# Altium footprint library V_5.PcbLib: 4 footprints
Each footprint in its own frame and in the unit in brackets; x right, y up, seen from the top. Pads: shape width x height; smd on the part's side, far side on the other; paste and mask are expansions set on the pad; w line width, h text height; cw(c..) or ccw(c..) is an arc to the next point about the centre after c.
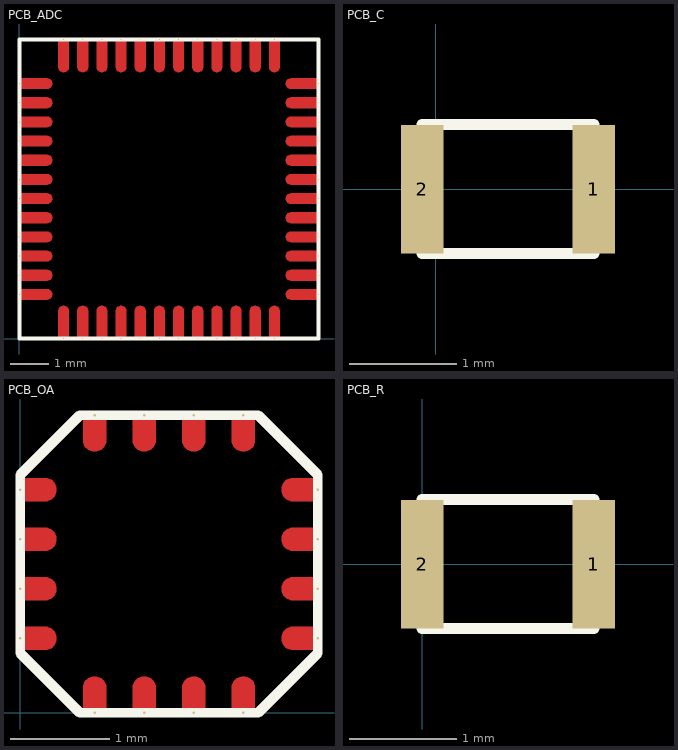
[diagram p0: the footprints below, top view; thin cyan lines are the x and y axes]

## PCB_ADC [mil]
pads (48):
  round 1 smd mask+2.76: 1(0,261.81) 2(0,242.13) 3(0,222.44) 4(0,202.76) 5(0,183.07) 6(0,163.39) 7(0,143.7) 8(0,124.02) 9(0,104.33) 10(0,84.65) 11(0,64.96) 12(0,45.28) 13(45.28,0) 14(64.96,0) 15(84.65,0) 16(104.33,0) 17(124.02,0) 18(143.7,0) 19(163.39,0) 20(183.07,0) 21(202.76,0) 22(222.44,0) 23(242.13,0) 24(261.81,0) 25(307.09,45.28) 26(307.09,64.96) 27(307.09,84.65) 28(307.09,104.33) 29(307.09,124.02) 30(307.09,143.7) 31(307.09,163.39) 32(307.09,183.07) 33(307.09,202.76) 34(307.09,222.44) 35(307.09,242.13) 36(307.09,261.81) 37(261.81,307.09) 38(242.13,307.09) 39(222.44,307.09) 40(202.76,307.09) 41(183.07,307.09) 42(163.39,307.09) 43(143.7,307.09) 44(124.02,307.09) 45(104.33,307.09) 46(84.65,307.09) 47(64.96,307.09) 48(45.28,307.09)
Top Layer:
  region: 307.09,157.87 279.13,157.87 278.41,157.87 277.01,158.25 275.75,158.98 274.72,160 274,161.26 273.62,162.66 273.62,164.11 274,165.51 274.72,166.77 275.75,167.8 277.01,168.52 278.41,168.9 279.13,168.9 307.09,168.9
  region: 307.09,138.19 279.13,138.19 278.41,138.19 277.01,138.56 275.75,139.29 274.72,140.32 274,141.57 273.62,142.98 273.62,144.43 274,145.83 274.72,147.09 275.75,148.11 277.01,148.84 278.41,149.21 279.13,149.21 307.09,149.21
  region: 307.09,118.5 279.13,118.5 278.41,118.5 277.01,118.88 275.75,119.61 274.72,120.63 274,121.89 273.62,123.29 273.62,124.74 274,126.14 274.72,127.4 275.75,128.43 277.01,129.15 278.41,129.53 279.13,129.53 307.09,129.53
  region: 307.09,98.82 279.13,98.82 278.41,98.82 277.01,99.19 275.75,99.92 274.72,100.95 274,102.2 273.62,103.61 273.62,105.06 274,106.46 274.72,107.72 275.75,108.74 277.01,109.47 278.41,109.84 279.13,109.84 307.09,109.84
  region: 307.09,79.13 279.13,79.13 278.41,79.13 277.01,79.51 275.75,80.24 274.72,81.26 274,82.52 273.62,83.92 273.62,85.37 274,86.77 274.72,88.03 275.75,89.06 277.01,89.78 278.41,90.16 279.13,90.16 307.09,90.16
  region: 307.09,59.45 279.13,59.45 278.41,59.45 277.01,59.82 275.75,60.55 274.72,61.58 274,62.83 273.62,64.23 273.62,65.69 274,67.09 274.72,68.34 275.75,69.37 277.01,70.1 278.41,70.47 279.13,70.47 307.09,70.47
  region: 157.87,0 157.87,27.95 157.87,28.68 158.25,30.08 158.98,31.34 160,32.36 161.26,33.09 162.66,33.46 164.11,33.46 165.51,33.09 166.77,32.36 167.8,31.34 168.52,30.08 168.9,28.68 168.9,27.95 168.9,0
  region: 177.56,0 177.56,27.95 177.56,28.68 177.93,30.08 178.66,31.34 179.69,32.36 180.94,33.09 182.35,33.46 183.8,33.46 185.2,33.09 186.46,32.36 187.48,31.34 188.21,30.08 188.58,28.68 188.58,27.95 188.58,0
  region: 197.24,0 197.24,27.95 197.24,28.68 197.62,30.08 198.35,31.34 199.37,32.36 200.63,33.09 202.03,33.46 203.48,33.46 204.88,33.09 206.14,32.36 207.17,31.34 207.89,30.08 208.27,28.68 208.27,27.95 208.27,0
  region: 216.93,0 216.93,27.95 216.93,28.68 217.3,30.08 218.03,31.34 219.06,32.36 220.31,33.09 221.72,33.46 223.17,33.46 224.57,33.09 225.83,32.36 226.85,31.34 227.58,30.08 227.95,28.68 227.95,27.95 227.95,0
  region: 256.3,0 256.3,27.95 256.3,28.68 256.67,30.08 257.4,31.34 258.43,32.36 259.68,33.09 261.09,33.46 262.54,33.46 263.94,33.09 265.2,32.36 266.22,31.34 266.95,30.08 267.32,28.68 267.32,27.95 267.32,0
  region: 307.09,39.76 279.13,39.76 278.41,39.76 277.01,40.14 275.75,40.87 274.72,41.89 274,43.15 273.62,44.55 273.62,46 274,47.4 274.72,48.66 275.75,49.69 277.01,50.41 278.41,50.79 279.13,50.79 307.09,50.79
  region: 236.61,0 236.61,27.95 236.61,28.68 236.99,30.08 237.72,31.34 238.74,32.36 240,33.09 241.4,33.46 242.85,33.46 244.25,33.09 245.51,32.36 246.54,31.34 247.26,30.08 247.64,28.68 247.64,27.95 247.64,0
  region: 138.19,0 138.19,27.95 138.19,28.68 138.56,30.08 139.29,31.34 140.32,32.36 141.57,33.09 142.98,33.46 144.43,33.46 145.83,33.09 147.09,32.36 148.11,31.34 148.84,30.08 149.21,28.68 149.21,27.95 149.21,0
  region: 59.45,0 59.45,27.95 59.45,28.68 59.82,30.08 60.55,31.34 61.58,32.36 62.83,33.09 64.23,33.46 65.69,33.46 67.09,33.09 68.34,32.36 69.37,31.34 70.1,30.08 70.47,28.68 70.47,27.95 70.47,0
  region: 79.13,0 79.13,27.95 79.13,28.68 79.51,30.08 80.24,31.34 81.26,32.36 82.52,33.09 83.92,33.46 85.37,33.46 86.77,33.09 88.03,32.36 89.06,31.34 89.78,30.08 90.16,28.68 90.16,27.95 90.16,0
  region: 118.5,0 118.5,27.95 118.5,28.68 118.88,30.08 119.61,31.34 120.63,32.36 121.89,33.09 123.29,33.46 124.74,33.46 126.14,33.09 127.4,32.36 128.43,31.34 129.15,30.08 129.53,28.68 129.53,27.95 129.53,0
  region: 98.82,0 98.82,27.95 98.82,28.68 99.19,30.08 99.92,31.34 100.95,32.36 102.2,33.09 103.61,33.46 105.06,33.46 106.46,33.09 107.72,32.36 108.74,31.34 109.47,30.08 109.84,28.68 109.84,27.95 109.84,0
  region: 39.76,0 39.76,27.95 39.76,28.68 40.14,30.08 40.87,31.34 41.89,32.36 43.15,33.09 44.55,33.46 46,33.46 47.4,33.09 48.66,32.36 49.69,31.34 50.41,30.08 50.79,28.68 50.79,27.95 50.79,0
  region: 307.09,197.24 279.13,197.24 278.41,197.24 277.01,197.62 275.75,198.35 274.72,199.37 274,200.63 273.62,202.03 273.62,203.48 274,204.88 274.72,206.14 275.75,207.17 277.01,207.89 278.41,208.27 279.13,208.27 307.09,208.27
  region: 307.09,177.56 279.13,177.56 278.41,177.56 277.01,177.93 275.75,178.66 274.72,179.69 274,180.94 273.62,182.35 273.62,183.8 274,185.2 274.72,186.46 275.75,187.48 277.01,188.21 278.41,188.58 279.13,188.58 307.09,188.58
  region: 39.76,307.09 39.76,279.13 39.76,278.41 40.14,277.01 40.87,275.75 41.89,274.72 43.15,274 44.55,273.62 46,273.62 47.4,274 48.66,274.72 49.69,275.75 50.41,277.01 50.79,278.41 50.79,279.13 50.79,307.09
  region: 59.45,307.09 59.45,279.13 59.45,278.41 59.82,277.01 60.55,275.75 61.58,274.72 62.83,274 64.23,273.62 65.69,273.62 67.09,274 68.34,274.72 69.37,275.75 70.1,277.01 70.47,278.41 70.47,279.13 70.47,307.09
  region: 138.19,307.09 138.19,279.13 138.19,278.41 138.56,277.01 139.29,275.75 140.32,274.72 141.57,274 142.98,273.62 144.43,273.62 145.83,274 147.09,274.72 148.11,275.75 148.84,277.01 149.21,278.41 149.21,279.13 149.21,307.09
  region: 157.87,307.09 157.87,279.13 157.87,278.41 158.25,277.01 158.98,275.75 160,274.72 161.26,274 162.66,273.62 164.11,273.62 165.51,274 166.77,274.72 167.8,275.75 168.52,277.01 168.9,278.41 168.9,279.13 168.9,307.09
  region: 177.56,307.09 177.56,279.13 177.56,278.41 177.93,277.01 178.66,275.75 179.69,274.72 180.94,274 182.35,273.62 183.8,273.62 185.2,274 186.46,274.72 187.48,275.75 188.21,277.01 188.58,278.41 188.58,279.13 188.58,307.09
  region: 197.24,307.09 197.24,279.13 197.24,278.41 197.62,277.01 198.35,275.75 199.37,274.72 200.63,274 202.03,273.62 203.48,273.62 204.88,274 206.14,274.72 207.17,275.75 207.89,277.01 208.27,278.41 208.27,279.13 208.27,307.09
  region: 216.93,307.09 216.93,279.13 216.93,278.41 217.3,277.01 218.03,275.75 219.06,274.72 220.31,274 221.72,273.62 223.17,273.62 224.57,274 225.83,274.72 226.85,275.75 227.58,277.01 227.95,278.41 227.95,279.13 227.95,307.09
  region: 79.13,307.09 79.13,279.13 79.13,278.41 79.51,277.01 80.24,275.75 81.26,274.72 82.52,274 83.92,273.62 85.37,273.62 86.77,274 88.03,274.72 89.06,275.75 89.78,277.01 90.16,278.41 90.16,279.13 90.16,307.09
  region: 118.5,307.09 118.5,279.13 118.5,278.41 118.88,277.01 119.61,275.75 120.63,274.72 121.89,274 123.29,273.62 124.74,273.62 126.14,274 127.4,274.72 128.43,275.75 129.15,277.01 129.53,278.41 129.53,279.13 129.53,307.09
  region: 236.61,307.09 236.61,279.13 236.61,278.41 236.99,277.01 237.72,275.75 238.74,274.72 240,274 241.4,273.62 242.85,273.62 244.25,274 245.51,274.72 246.54,275.75 247.26,277.01 247.64,278.41 247.64,279.13 247.64,307.09
  region: 98.82,307.09 98.82,279.13 98.82,278.41 99.19,277.01 99.92,275.75 100.95,274.72 102.2,274 103.61,273.62 105.06,273.62 106.46,274 107.72,274.72 108.74,275.75 109.47,277.01 109.84,278.41 109.84,279.13 109.84,307.09
  region: 256.3,307.09 256.3,279.13 256.3,278.41 256.67,277.01 257.4,275.75 258.43,274.72 259.68,274 261.09,273.62 262.54,273.62 263.94,274 265.2,274.72 266.22,275.75 266.95,277.01 267.32,278.41 267.32,279.13 267.32,307.09
  region: 307.09,216.93 279.13,216.93 278.41,216.93 277.01,217.3 275.75,218.03 274.72,219.06 274,220.31 273.62,221.72 273.62,223.17 274,224.57 274.72,225.83 275.75,226.85 277.01,227.58 278.41,227.95 279.13,227.95 307.09,227.95
  region: 307.09,236.61 279.13,236.61 278.41,236.61 277.01,236.99 275.75,237.72 274.72,238.74 274,240 273.62,241.4 273.62,242.85 274,244.25 274.72,245.51 275.75,246.54 277.01,247.26 278.41,247.64 279.13,247.64 307.09,247.64
  region: 307.09,256.3 279.13,256.3 278.41,256.3 277.01,256.67 275.75,257.4 274.72,258.43 274,259.68 273.62,261.09 273.62,262.54 274,263.94 274.72,265.2 275.75,266.22 277.01,266.95 278.41,267.32 279.13,267.32 307.09,267.32
  region: 0,109.84 27.95,109.84 28.68,109.84 30.08,109.47 31.34,108.74 32.36,107.72 33.09,106.46 33.46,105.06 33.46,103.61 33.09,102.2 32.36,100.95 31.34,99.92 30.08,99.19 28.68,98.82 27.95,98.82 0,98.82
  region: 0,129.53 27.95,129.53 28.68,129.53 30.08,129.15 31.34,128.43 32.36,127.4 33.09,126.14 33.46,124.74 33.46,123.29 33.09,121.89 32.36,120.63 31.34,119.61 30.08,118.88 28.68,118.5 27.95,118.5 0,118.5
  region: 0,149.21 27.95,149.21 28.68,149.21 30.08,148.84 31.34,148.11 32.36,147.09 33.09,145.83 33.46,144.43 33.46,142.98 33.09,141.57 32.36,140.32 31.34,139.29 30.08,138.56 28.68,138.19 27.95,138.19 0,138.19
  region: 0,168.9 27.95,168.9 28.68,168.9 30.08,168.52 31.34,167.8 32.36,166.77 33.09,165.51 33.46,164.11 33.46,162.66 33.09,161.26 32.36,160 31.34,158.98 30.08,158.25 28.68,157.87 27.95,157.87 0,157.87
  region: 0,188.58 27.95,188.58 28.68,188.58 30.08,188.21 31.34,187.48 32.36,186.46 33.09,185.2 33.46,183.8 33.46,182.35 33.09,180.94 32.36,179.69 31.34,178.66 30.08,177.93 28.68,177.56 27.95,177.56 0,177.56
  region: 0,208.27 27.95,208.27 28.68,208.27 30.08,207.89 31.34,207.17 32.36,206.14 33.09,204.88 33.46,203.48 33.46,202.03 33.09,200.63 32.36,199.37 31.34,198.35 30.08,197.62 28.68,197.24 27.95,197.24 0,197.24
  region: 0,227.95 27.95,227.95 28.68,227.95 30.08,227.58 31.34,226.85 32.36,225.83 33.09,224.57 33.46,223.17 33.46,221.72 33.09,220.31 32.36,219.06 31.34,218.03 30.08,217.3 28.68,216.93 27.95,216.93 0,216.93
  region: 0,247.64 27.95,247.64 28.68,247.64 30.08,247.26 31.34,246.54 32.36,245.51 33.09,244.25 33.46,242.85 33.46,241.4 33.09,240 32.36,238.74 31.34,237.72 30.08,236.99 28.68,236.61 27.95,236.61 0,236.61
  region: 0,267.32 27.95,267.32 28.68,267.32 30.08,266.95 31.34,266.22 32.36,265.2 33.09,263.94 33.46,262.54 33.46,261.09 33.09,259.68 32.36,258.43 31.34,257.4 30.08,256.67 28.68,256.3 27.95,256.3 0,256.3
  region: 0,70.47 27.95,70.47 28.68,70.47 30.08,70.1 31.34,69.37 32.36,68.34 33.09,67.09 33.46,65.69 33.46,64.23 33.09,62.83 32.36,61.58 31.34,60.55 30.08,59.82 28.68,59.45 27.95,59.45 0,59.45
  region: 0,90.16 27.95,90.16 28.68,90.16 30.08,89.78 31.34,89.06 32.36,88.03 33.09,86.77 33.46,85.37 33.46,83.92 33.09,82.52 32.36,81.26 31.34,80.24 30.08,79.51 28.68,79.13 27.95,79.13 0,79.13
  region: 0,50.79 27.95,50.79 28.68,50.79 30.08,50.41 31.34,49.69 32.36,48.66 33.09,47.4 33.46,46 33.46,44.55 33.09,43.15 32.36,41.89 31.34,40.87 30.08,40.14 28.68,39.76 27.95,39.76 0,39.76
Top Overlay:
  lines w3.94: 0,0 307.09,0 307.09,307.09 0,307.09 0,0

## PCB_C [mm]
pads (2):
  rect 0.4x1.2 smd mask+0.07: 1(1.473,0) 2(-0.127,0)
Top Overlay:
  lines w0.1: -0.13,-0.6 1.476,-0.6 1.476,0.603 -0.13,0.603 -0.13,-0.6

## PCB_OA [mil]
pads (16):
  round 1 smd mask+2.76: 1(0,88.58) 2(0,68.9) 3(0,49.21) 4(0,29.53) 5(29.54,0) 6(49.22,0) 7(68.91,0) 8(88.59,0) 9(118.11,29.54) 10(118.11,49.22) 11(118.11,68.91) 12(118.11,88.59) 13(88.57,118.11) 14(68.89,118.11) 15(49.21,118.11) 16(29.52,118.11)
Top Layer:
  region: 0,53.74 9.84,53.74 10.74,53.74 12.41,53.05 13.68,51.78 14.37,50.11 14.37,48.31 13.68,46.65 12.41,45.37 10.74,44.69 9.84,44.69 0,44.69
  region: 0,73.43 9.84,73.43 10.74,73.43 12.41,72.74 13.68,71.46 14.37,69.8 14.37,68 13.68,66.33 12.41,65.06 10.74,64.37 9.84,64.37 0,64.37
  region: 0,34.06 9.84,34.06 10.74,34.06 12.41,33.37 13.68,32.09 14.37,30.43 14.37,28.63 13.68,26.96 12.41,25.69 10.74,25 9.84,25 0,25
  region: 118.11,64.38 108.27,64.38 107.37,64.38 105.7,65.07 104.43,66.34 103.74,68.01 103.74,69.81 104.43,71.47 105.7,72.75 107.37,73.44 108.27,73.44 118.11,73.44
  region: 118.11,44.7 108.27,44.7 107.37,44.7 105.7,45.39 104.43,46.66 103.74,48.32 103.74,50.12 104.43,51.79 105.7,53.06 107.37,53.75 108.27,53.75 118.11,53.75
  region: 64.38,0 64.38,9.84 64.38,10.74 65.07,12.41 66.34,13.68 68.01,14.37 69.81,14.37 71.47,13.68 72.75,12.41 73.44,10.74 73.44,9.84 73.44,0
  region: 44.7,0 44.7,9.84 44.7,10.74 45.39,12.41 46.66,13.68 48.32,14.37 50.12,14.37 51.79,13.68 53.06,12.41 53.75,10.74 53.75,9.84 53.75,0
  region: 25.01,0 25.01,9.84 25.01,10.74 25.7,12.41 26.97,13.68 28.64,14.37 30.44,14.37 32.1,13.68 33.38,12.41 34.07,10.74 34.07,9.84 34.07,0
  region: 84.07,0 84.07,9.84 84.07,10.74 84.76,12.41 86.03,13.68 87.69,14.37 89.49,14.37 91.16,13.68 92.43,12.41 93.12,10.74 93.12,9.84 93.12,0
  region: 118.11,25.01 108.27,25.01 107.37,25.01 105.7,25.7 104.43,26.97 103.74,28.64 103.74,30.44 104.43,32.1 105.7,33.38 107.37,34.07 108.27,34.07 118.11,34.07
  region: 0,93.11 9.84,93.11 10.74,93.11 12.41,92.42 13.68,91.15 14.37,89.48 14.37,87.68 13.68,86.02 12.41,84.74 10.74,84.06 9.84,84.06 0,84.06
  region: 118.11,84.07 108.27,84.07 107.37,84.07 105.7,84.76 104.43,86.03 103.74,87.69 103.74,89.49 104.43,91.16 105.7,92.43 107.37,93.12 108.27,93.12 118.11,93.12
  region: 53.74,118.11 53.74,108.27 53.74,107.37 53.05,105.7 51.78,104.43 50.11,103.74 48.31,103.74 46.65,104.43 45.37,105.7 44.69,107.37 44.69,108.27 44.69,118.11
  region: 73.41,118.11 73.41,108.27 73.41,107.37 72.72,105.7 71.45,104.43 69.79,103.74 67.99,103.74 66.32,104.43 65.05,105.7 64.36,107.37 64.36,108.27 64.36,118.11
  region: 34.04,118.11 34.04,108.27 34.04,107.37 33.35,105.7 32.08,104.43 30.42,103.74 28.62,103.74 26.95,104.43 25.68,105.7 24.99,107.37 24.99,108.27 24.99,118.11
  region: 93.1,118.11 93.1,108.27 93.1,107.37 92.41,105.7 91.14,104.43 89.47,103.74 87.67,103.74 86.01,104.43 84.73,105.7 84.04,107.37 84.04,108.27 84.04,118.11
Top Overlay:
  lines w3.94: 0,23.62 0,94.49 23.62,118.11 94.49,118.11 118.11,94.49 118.11,23.62 94.49,0 23.62,0 0,23.62

## PCB_R [mm]
pads (2):
  rect 0.4x1.2 smd mask+0.07: 1(1.6,0) 2(0,0)
Top Overlay:
  lines w0.1: -0.003,-0.6 1.603,-0.6 1.603,0.603 -0.003,0.603 -0.003,-0.6